# Altium schematic symbol library pwr_reg_linear_78xx79xx.SchLib: 54 symbols
Pins are listed as number, name and electrical type; pins without a type are passive.

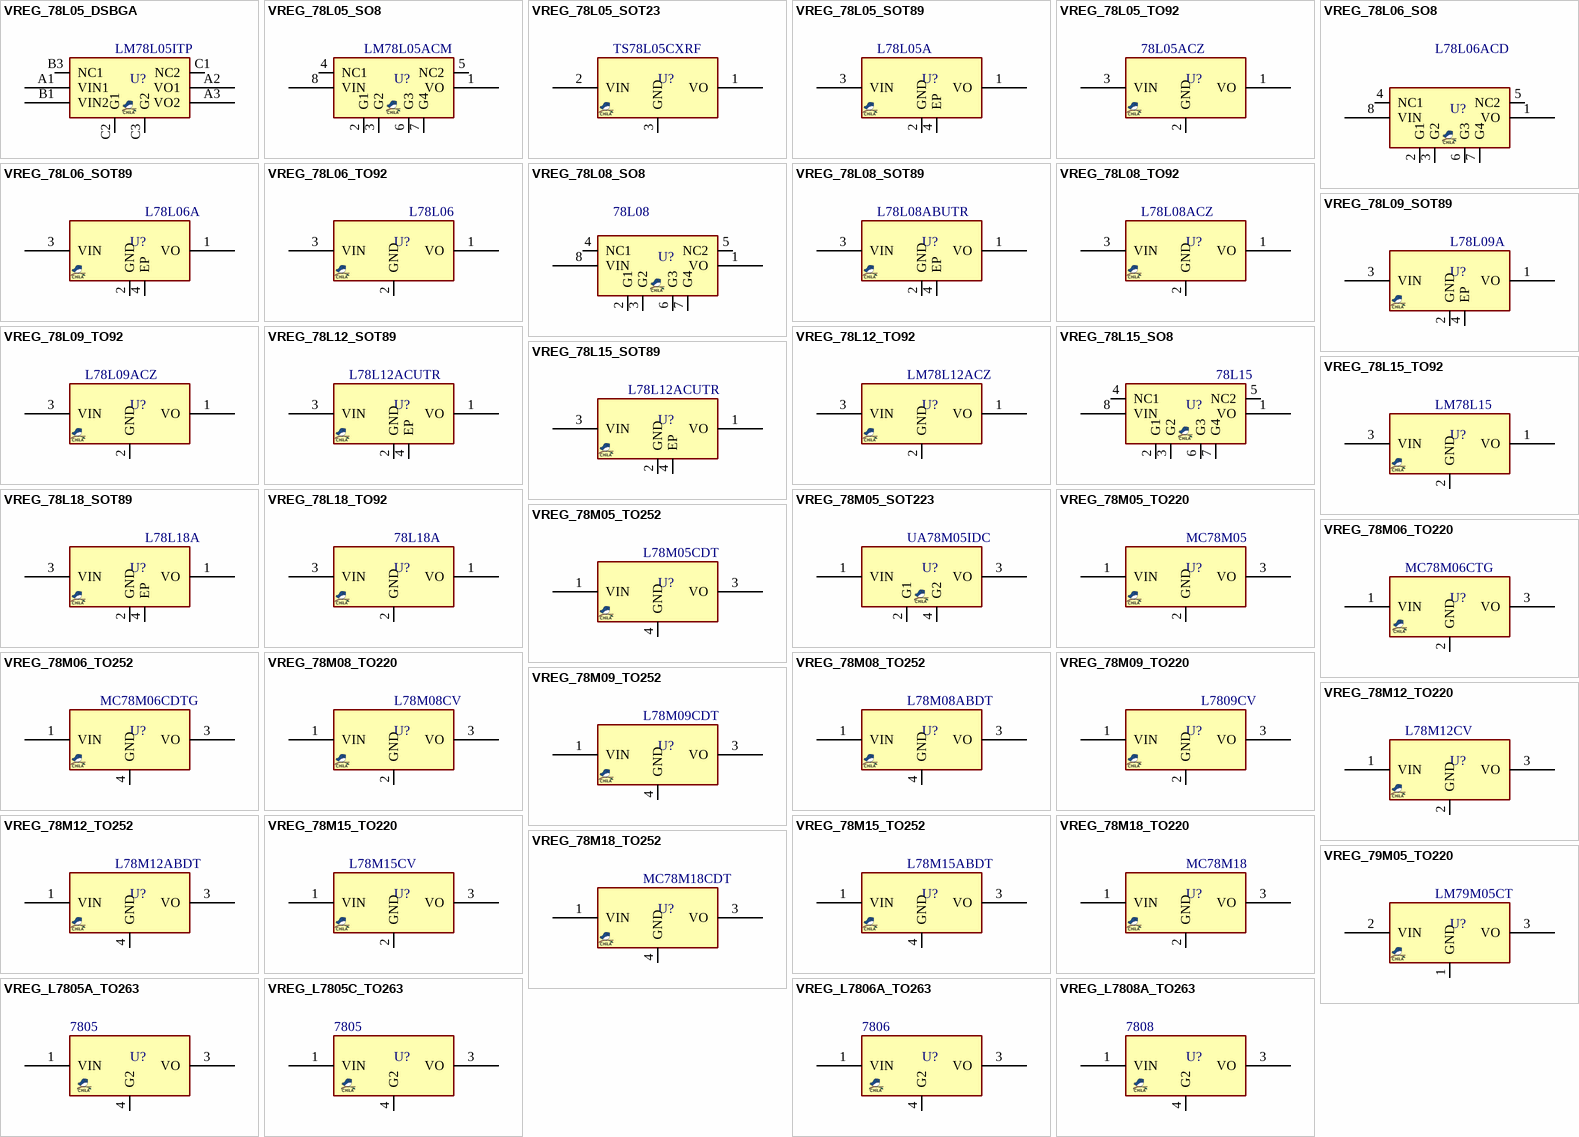
[diagram p0: symbols VREG_78L05_DSBGA to VREG_L7808A_TO263]

## VREG_78L05_DSBGA
designator U?, comment LM78L05ITP
REG, Linear, Fixed, 5v, 0.1A, BGA; MANF: TI; MANF_P#: LM78L05ITP; PARAM: 5v, 0.1A; PARAM2: PARAM2; VALUE: LM78L05ITP
footprint BGA50_8 (BGA, DSBGA, 8-Leads, Body 1.35x1.35mmx0.60mm, Pitch 0.50mm)
pins: A1 VIN1, A2 VO1, A3 VO2, B1 VIN2, B3 NC1, C1 NC2, C2 G1, C3 G2

## VREG_78L05_SO8
designator U?, comment LM78L05ACM
REG, Linear, Fixed, 5v, 0.1A, SO-8; MANF_P#: LM78L05ACM, LM78L05AIM, UA78L05ACDR, UA78L05CDR, UA78L05AIDR, L78L05ABD, AP78L05SG, MC78L05ABD, MC78L05ACD, NCV78L05ABDG, TS78L05CS; MANF: TI, ST, FAIRCHILD, ON, TS; PARAM: 5v, 0.1A; PARAM2: PARAM2; VALUE: LM78L05ACM
footprint SO_8
pins: 1 VO, 2 G1, 3 G2, 4 NC1, 5 NC2, 6 G3, 7 G4, 8 VIN

## VREG_78L05_SOT23
designator U?, comment TS78L05CXRF
REG, Linear, Fixed, 5v, 0.1A, SOT-23; MANF: TS; PARAM: 12v, 0.1A; MANF_P#: TS78L05CXRF; PARAM2: PARAM2; VALUE: TS78L05CXRF
footprint SOT23_3 (SOT-23, Micro3, MO-178, TO-236AB, MO-193C, SuperSOT3, SC-59, DSO190_3_300X150)
pins: 1 VO, 2 VIN, 3 GND

## VREG_78L05_SOT89
designator U?, comment L78L05A
REG, Linear, Fixed, 5v, 0.1A, SOT-89; MANF_P#: L78L05ABUTR, L78L05ACUTR, MC78L05ACH; MANF: ST, FAIRCHILD; PARAM: 5v, 0.1A; PARAM2: PARAM2; VALUE: L78L05A
footprint SOT89_3 (SOT89, SOT-89, SBF-4089, SOT89A, GALI, SC-62, DF782, TO-243AA(JEDEC))
pins: 1 VO, 2 GND, 3 VIN, 4 EP

## VREG_78L05_TO92
designator U?, comment 78L05ACZ
REG, Linear, Fixed, 5v, 0.1A, TO-92; MANF_P#: LM78L05ACZ, LM78L05ACP, L78L05ACZ, WS78L05ACZ, AS78L05Z; MANF: TI, ST, WS, DIODES; PARAM: 5v, 0.1A; PARAM2: PARAM2; VALUE: 78L05ACZ
footprint TO92_3 (TO-92)
pins: 1 VO, 2 GND, 3 VIN

## VREG_78L06_SO8
designator U?, comment L78L06ACD
REG, Linear, Fixed, 6v, 0.1A, SO-8; MANF: ST; MANF_P#: L78L06ACD; PARAM: 6v, 0.1A; PARAM2: PARAM2; VALUE: L78L06ACD
footprint SO_8
pins: 1 VO, 2 G1, 3 G2, 4 NC1, 5 NC2, 6 G3, 7 G4, 8 VIN

## VREG_78L06_SOT89
designator U?, comment L78L06A
REG, Linear, Fixed, 6v, 0.1A, SOT-89; MANF_P#: UA78L06ACPK, L78L06ACUTR, L78L06ABUTR, NJM78L06UA; MANF: TI, ST, NJR; PARAM: 6v, 0.1A; PARAM2: PARAM2; VALUE: L78L06A
footprint SOT89_3 (SOT89, SOT-89, SBF-4089, SOT89A, GALI, SC-62, DF782, TO-243AA(JEDEC))
pins: 1 VO, 2 GND, 3 VIN, 4 EP

## VREG_78L06_TO92
designator U?, comment L78L06
REG, Linear, Fixed, 6v, 0.1A, TO-92; MANF_P#: UA78L06ACLP, L78L06ABZ, L78L06ACZ, MC78L06ACP, MC78L06ACP, KA78L06AZTA; MANF: TI, ST, FAIRCHILD, ON; PARAM: 6v, 0.1A; PARAM2: PARAM2; VALUE: L78L06
footprint TO92_3 (TO-92)
pins: 1 VO, 2 GND, 3 VIN

## VREG_78L08_SO8
designator U?, comment 78L08
REG, Linear, Fixed, 8v, 0.1A, SO-8; MANF_P#: UA78L08ACD, L78L08ABD, L78L08ACD, MC78L08ABD, MC78L08ACD, NCV78L08ABD; MANF: TI, ST, ON; PARAM: 8v, 0.1A; PARAM2: PARAM2; VALUE: 78L08
footprint SO_8
pins: 1 VO, 2 G1, 3 G2, 4 NC1, 5 NC2, 6 G3, 7 G4, 8 VIN

## VREG_78L08_SOT89
designator U?, comment L78L08ABUTR
REG, Linear, Fixed, 8v, 0.1A, SOT-89; MANF_P#: UA78L08ACPK, L78L08ABUTR, KA78L08AMTF, KA78L08AMTF, MC78L08ACHX, AP78L08YG, NJM78L08UA; MANF: TI, ST, FAIRCHILD, DIODES, NJR; PARAM: 8v, 0.1A; PARAM2: PARAM2; VALUE: L78L08ABUTR
footprint SOT89_3 (SOT89, SOT-89, SBF-4089, SOT89A, GALI, SC-62, DF782, TO-243AA(JEDEC))
pins: 1 VO, 2 GND, 3 VIN, 4 EP

## VREG_78L08_TO92
designator U?, comment L78L08ACZ
REG, Linear, Fixed, 8v, 0.1A, TO-92; MANF_P#: UA78L08ACLP, L78L08ABZ, L78L08ACZ, KA78L08AZTA, MC78L08ABP, MC78L08ACP; MANF: TI, ST, FAIRCHILD, ON; PARAM: 8v, 0.1A; PARAM2: PARAM2; VALUE: L78L08ACZ
footprint TO92_3 (TO-92)
pins: 1 VO, 2 GND, 3 VIN

## VREG_78L09_SOT89
designator U?, comment L78L09A
REG, Linear, Fixed, 9v, 0.1A, SOT-89; MANF_P#: L78L09ACUTR; MANF: ST; PARAM: 9v, 0.1A; PARAM2: PARAM2; VALUE: L78L09A
footprint SOT89_3 (SOT89, SOT-89, SBF-4089, SOT89A, GALI, SC-62, DF782, TO-243AA(JEDEC))
pins: 1 VO, 2 GND, 3 VIN, 4 EP

## VREG_78L09_TO92
designator U?, comment L78L09ACZ
REG, Linear, Fixed, 9v, 0.1A, TO-92; MANF: ST; MANF_P#: L78L09ACZ; PARAM: 9v, 0.1A; PARAM2: PARAM2; VALUE: L78L09ACZ
footprint TO92_3 (TO-92)
pins: 1 VO, 2 GND, 3 VIN

## VREG_78L12_SOT89
designator U?, comment L78L12ACUTR
REG, Linear, Fixed, 12v, 0.1A, SOT-89; MANF_P#: UA78L12ACPK, L78L12ACUTR; MANF: TI, ST; PARAM: 12v, 0.1A; PARAM2: PARAM2; VALUE: L78L12ACUTR
footprint SOT89_3 (SOT89, SOT-89, SBF-4089, SOT89A, GALI, SC-62, DF782, TO-243AA(JEDEC))
pins: 1 VO, 2 GND, 3 VIN, 4 EP

## VREG_78L12_TO92
designator U?, comment LM78L12ACZ
REG, Linear, Fixed, 12v, 0.1A, TO-92; MANF_P#: LM78L12ACZ, MC78L12ACPG; MANF: FAIRCHILD, ON; PARAM: 8v, 0.1A; PARAM2: PARAM2; VALUE: LM78L12ACZ
footprint TO92_3 (TO-92)
pins: 1 VO, 2 GND, 3 VIN

## VREG_78L15_SO8
designator U?, comment 78L15
REG, Linear, Fixed, 15v, 0.1A, SO-8; MANF_P#: LM78L15ACM; MANF: TI; PARAM: 15v, 0.1A; PARAM2: PARAM2; VALUE: 78L15
footprint SO_8
pins: 1 VO, 2 G1, 3 G2, 4 NC1, 5 NC2, 6 G3, 7 G4, 8 VIN

## VREG_78L15_SOT89
designator U?, comment L78L12ACUTR
REG, Linear, Fixed, 15v, 0.1A, SOT-89; MANF_P#: UA78L15ACPK, L78L15ACUTR; MANF: TI, ST; PARAM: 15v, 0.1A; PARAM2: PARAM2; VALUE: L78L12ACUTR
footprint SOT89_3 (SOT89, SOT-89, SBF-4089, SOT89A, GALI, SC-62, DF782, TO-243AA(JEDEC))
pins: 1 VO, 2 GND, 3 VIN, 4 EP

## VREG_78L15_TO92
designator U?, comment LM78L15
REG, Linear, Fixed, 15v, 0.1A, TO-92; MANF: TI; MANF_P#: LM78L15; PARAM: 15v, 0.1A; PARAM2: PARAM2; VALUE: LM78L15
footprint TO92_3 (TO-92)
pins: 1 VO, 2 GND, 3 VIN

## VREG_78L18_SOT89
designator U?, comment L78L18A
REG, Linear, Fixed, 18v, 0.1A, SOT-89; MANF_P#: L78L18ACUTR; MANF: ST; PARAM: 18v, 0.1A; PARAM2: PARAM2; VALUE: L78L18A
footprint SOT89_3 (SOT89, SOT-89, SBF-4089, SOT89A, GALI, SC-62, DF782, TO-243AA(JEDEC))
pins: 1 VO, 2 GND, 3 VIN, 4 EP

## VREG_78L18_TO92
designator U?, comment 78L18A
REG, Linear, Fixed, 18v, 0.1A, TO-92; MANF_P#: MC78L18ACPG; MANF: ON; PARAM: 18v, 0.1A; PARAM2: PARAM2; VALUE: 78L18A
footprint TO92_3 (TO-92)
pins: 1 VO, 2 GND, 3 VIN

## VREG_78M05_SOT223
designator U?, comment UA78M05IDC
REG, Linear, Fixed, 5v, 0.5A, SOT-223; MANF_P#: UA78M05IDCYR; MANF: TI; PARAM: 5v, 0.5A; PARAM2: PARAM2; VALUE: UA78M05IDC
footprint SOT223_4 (SOT223, 4-Leads, Body 6.5x3.5mm, Pitch 2.30mm)
pins: 1 VIN, 2 G1, 3 VO, 4 G2

## VREG_78M05_TO220
designator U?, comment MC78M05
REG, Linear, Fixed, 5v, 1.5A, TO-220; MANF_P#: LM78M05CT, LM7805CT, LM7805ACT, UA7805CKC, L7805ABV, L7805ACV, L7805CV, L78M05CV, KA78T05, KA7805ETU, MC78M05BT, MC78M05CT, MC7805ACT, MC7805ABT, NCP7805TG, NJM7805FA, TS7805CZ; MANF: TI, ST, FAIRCHILD, ON, NJR, TS; PARAM: 5v, 1.5A; PARAM2: PARAM2; VALUE: MC78M05
footprint TO220_3 (TO-220 3 LEAD, TO-262, pitch: 2.54mm  10x4.5mm)
pins: 1 VIN, 2 GND, 3 VO

## VREG_78M05_TO252
designator U?, comment L78M05CDT
REG, Linear, Fixed, 5v, 0.5A, TO-252; MANF_P#: LM78M05CDT, L7805CDT, MC7805BDT, MC78M05CDT, MC7805BDT, KA7805ERT, NCV7805BDT, BA7805FP, NJM7805DL1A, AS7805ADTR; MANF: TI, ST, FAIRCHILD, ON, NJR, ROHM, DIODES; PARAM: 5v, 0.5A; PARAM2: PARAM2; VALUE: L78M05CDT
footprint DPAK_3 (D-PAK (TO-252), 3-Pads, Body 6.2x6.7mm)
pins: 1 VIN, 3 VO, 4 GND

## VREG_78M06_TO220
designator U?, comment MC78M06CTG
REG, Linear, Fixed, 6v, 1.5A, TO220; MANF: ON; MANF_P#: MC78M06CTG; PARAM: 6v, 1.5A; PARAM2: PARAM2; VALUE: MC78M06CTG
footprint TO220_3 (TO-220 3 LEAD, TO-262, pitch: 2.54mm  10x4.5mm)
pins: 1 VIN, 2 GND, 3 VO

## VREG_78M06_TO252
designator U?, comment MC78M06CDTG
REG, Linear, Fixed, 6v, 0.5A, TO-252; MANF: ON; MANF_P#: MC78M06CDTG; PARAM: 6v, 0.5A; PARAM2: PARAM2; VALUE: MC78M06CDTG
footprint DPAK_3 (D-PAK (TO-252), 3-Pads, Body 6.2x6.7mm)
pins: 1 VIN, 3 VO, 4 GND

## VREG_78M08_TO220
designator U?, comment L78M08CV
REG, Linear, Fixed, 8v, 1.5A, TO220; MANF_P#: L78M08CV, L7808ACV, L7808CV, L7808ABV, MC7808ACTG, MC7808CTG, UA7808CKC, LM7808CT, KA7808ETU, BA17808T, NCV7808BTG, NJM7808FA; MANF: TI, ST, FAIRCHILD, ON, DIODES, NJR; PARAM: 8v, 1.5A; PARAM2: PARAM2; VALUE: L78M08CV
footprint TO220_3 (TO-220 3 LEAD, TO-262, pitch: 2.54mm  10x4.5mm)
pins: 1 VIN, 2 GND, 3 VO

## VREG_78M08_TO252
designator U?, comment L78M08ABDT
REG, Linear, Fixed, 8v, 0.5A, TO-252; MANF_P#: UA78M08CKVUR, L78M08ABDT, MC78M08CDT, MC78M08BDT, L78M08CDT, NJM78M08DL1A, BA178M08FP, KA7808ERTM, MC7808CDT; MANF: TI, ST, FAIRCHILD, ON, ROHM, NJR; PARAM: 8v, 0.5A; PARAM2: PARAM2; VALUE: L78M08ABDT
footprint DPAK_3 (D-PAK (TO-252), 3-Pads, Body 6.2x6.7mm)
pins: 1 VIN, 3 VO, 4 GND

## VREG_78M09_TO220
designator U?, comment L7809CV
REG, Linear, Fixed, 9v, 1.5A, TO-220; MANF: ST; MANF_P#: L7809CV; PARAM: 9v, 1.5A; PARAM2: PARAM2; VALUE: L7809CV
footprint TO220_3 (TO-220 3 LEAD, TO-262, pitch: 2.54mm  10x4.5mm)
pins: 1 VIN, 2 GND, 3 VO

## VREG_78M09_TO252
designator U?, comment L78M09CDT
REG, Linear, Fixed, 9v, 0.5A, TO-252; MANF: ST; MANF_P#: L78M09CDT; PARAM: 9v, 0.5A; PARAM2: PARAM2; VALUE: L78M09CDT
footprint DPAK_3 (D-PAK (TO-252), 3-Pads, Body 6.2x6.7mm)
pins: 1 VIN, 3 VO, 4 GND

## VREG_78M12_TO220
designator U?, comment L78M12CV
REG, Linear, Fixed, 12v, 1.5A, TO220; MANF_P#: L78M12CV, MC78M12CTG, UA78M12CKC; MANF: TI, ST, ON; PARAM: 12v, 1.5A; PARAM2: PARAM2; VALUE: L78M12CV
footprint TO220_3 (TO-220 3 LEAD, TO-262, pitch: 2.54mm  10x4.5mm)
pins: 1 VIN, 2 GND, 3 VO

## VREG_78M12_TO252
designator U?, comment L78M12ABDT
REG, Linear, Fixed, 12v, 0.5A, TO-252; MANF_P#: MC78M12CDT, UA78M12CKV, MC78M12ABDT, L78M12CDT, MC78M12BDT, BA78M12FP, TS78M12CP; MANF: TI, ST, ON, ROHM, TS; PARAM: 12v, 0.5A; PARAM2: PARAM2; VALUE: L78M12ABDT
footprint DPAK_3 (D-PAK (TO-252), 3-Pads, Body 6.2x6.7mm)
pins: 1 VIN, 3 VO, 4 GND

## VREG_78M15_TO220
designator U?, comment L78M15CV
REG, Linear, Fixed, 15v, 1.5A, TO220; MANF: ST; MANF_P#: L78M15CV; PARAM: 15v, 1.5A; PARAM2: PARAM2; VALUE: L78M15CV
footprint TO220_3 (TO-220 3 LEAD, TO-262, pitch: 2.54mm  10x4.5mm)
pins: 1 VIN, 2 GND, 3 VO

## VREG_78M15_TO252
designator U?, comment L78M15ABDT
REG, Linear, Fixed, 15v, 0.5A, TO-252; MANF: ST; MANF_P#: L78M15ABDT; PARAM: 15v, 0.5A; PARAM2: PARAM2; VALUE: L78M15ABDT
footprint DPAK_3 (D-PAK (TO-252), 3-Pads, Body 6.2x6.7mm)
pins: 1 VIN, 3 VO, 4 GND

## VREG_78M18_TO220
designator U?, comment MC78M18
REG, Linear, Fixed, 18v, 1.5A, TO-220; MANF_P#: MC78M18BTG; MANF: ON; PARAM: 18v, 1.5A; PARAM2: PARAM2; VALUE: MC78M18
footprint TO220_3 (TO-220 3 LEAD, TO-262, pitch: 2.54mm  10x4.5mm)
pins: 1 VIN, 2 GND, 3 VO

## VREG_78M18_TO252
designator U?, comment MC78M18CDT
REG, Linear, Fixed, 18v, 0.5A, TO-252; MANF_P#: MC78M18CDTG; MANF: ON; PARAM: 18v, 0.5A; PARAM2: PARAM2; VALUE: MC78M18CDT
footprint DPAK_3 (D-PAK (TO-252), 3-Pads, Body 6.2x6.7mm)
pins: 1 VIN, 3 VO, 4 GND

## VREG_79M05_TO220
designator U?, comment LM79M05CT
REG, Linear, Negative,Fixed, -5v, 1.5A, TO-220; MANF: TI; MANF_P#: LM79M05CT; PARAM: -5v, 1.5A; PARAM2: PARAM2; VALUE: LM79M05CT
footprint TO220_3 (TO-220 3 LEAD, TO-262, pitch: 2.54mm  10x4.5mm)
pins: 1 GND, 2 VIN, 3 VO

## VREG_L7805A_TO263
designator U?, comment 7805
REG, Linear, Fixed, 5v, 1A, TO-263; MANF_P#: L7805ABD2T; MANF: TI; PARAM2: 7.5~25vIn, 5vOut; PARAM: 1A; VALUE: 7805
footprint D2PAK_2 (D2PAK-3, FMG500_3_S1000)
pins: 1 VIN, 3 VO, 4 G2

## VREG_L7805C_TO263
designator U?, comment 7805
REG, Linear, Fixed, 5v, 0.5A, TO-263; MANF_P#: L7805CD2T; MANF: TI; PARAM2: 7~25vIn, 5vOut; PARAM: 0.5A; VALUE: 7805
footprint D2PAK_2 (D2PAK-3, FMG500_3_S1000)
pins: 1 VIN, 3 VO, 4 G2

## VREG_L7806A_TO263
designator U?, comment 7806
REG, Linear, Fixed, 6v, 1A, TO-263; MANF_P#: L7806ABD2T; MANF: TI; PARAM2: 8.6~25vIn, 6vOut; PARAM: 1A; VALUE: 7806
footprint D2PAK_2 (D2PAK-3, FMG500_3_S1000)
pins: 1 VIN, 3 VO, 4 G2

## VREG_L7808A_TO263
designator U?, comment 7808
REG, Linear, Fixed, 8v, 1A, TO-263; MANF_P#: L7808ABD2T; MANF: TI; PARAM2: 10.6~25vIn, 8vOut; PARAM: 1A; VALUE: 7808
footprint D2PAK_2 (D2PAK-3, FMG500_3_S1000)
pins: 1 VIN, 3 VO, 4 G2

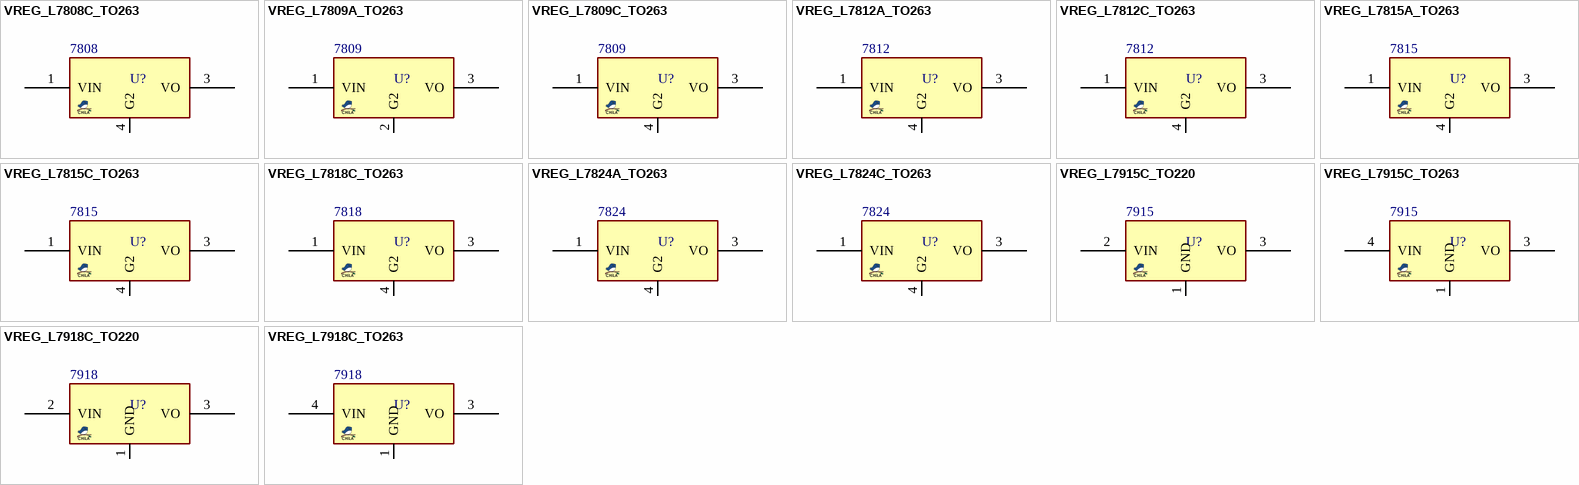
[diagram p1: symbols VREG_L7808C_TO263 to VREG_L7918C_TO263]

## VREG_L7808C_TO263
designator U?, comment 7808
REG, Linear, Fixed, 8v, 0.5A, TO-263; MANF_P#: L7808CD2T; MANF: TI; PARAM2: 10.5~25vIn, 8vOut; PARAM: 0.5A; VALUE: 7808
footprint D2PAK_2 (D2PAK-3, FMG500_3_S1000)
pins: 1 VIN, 3 VO, 4 G2

## VREG_L7809A_TO263
designator U?, comment 7809
REG, Linear, Fixed, 9v, 1A, TO-263; MANF_P#: L7809ABD2T; MANF: TI; PARAM2: 10.6~25vIn, 9vOut; PARAM: 1A; VALUE: 7809
footprint D2PAK_2 (D2PAK-3, FMG500_3_S1000)
pins: 1 VIN, 2 G2, 3 VO

## VREG_L7809C_TO263
designator U?, comment 7809
REG, Linear, Fixed, 9v, 0.5A, TO-263; MANF_P#: L7809CD2T; MANF: TI; PARAM2: 11.5~26vIn, 9vOut; PARAM: 0.5A; VALUE: 7809
footprint D2PAK_2 (D2PAK-3, FMG500_3_S1000)
pins: 1 VIN, 3 VO, 4 G2

## VREG_L7812A_TO263
designator U?, comment 7812
REG, Linear, Fixed, 12v, 1A, TO-263; MANF_P#: L7812ABD2T; MANF: TI; PARAM2: 14.8~30vIn, 12vOut; PARAM: 1A; VALUE: 7812
footprint D2PAK_2 (D2PAK-3, FMG500_3_S1000)
pins: 1 VIN, 3 VO, 4 G2

## VREG_L7812C_TO263
designator U?, comment 7812
REG, Linear, Fixed, 12v, 0.5A, TO-263; MANF_P#: L7812CD2T; MANF: TI; PARAM2: 14.5~30vIn, 12vOut; PARAM: 0.5A; VALUE: 7812
footprint D2PAK_2 (D2PAK-3, FMG500_3_S1000)
pins: 1 VIN, 3 VO, 4 G2

## VREG_L7815A_TO263
designator U?, comment 7815
REG, Linear, Fixed, 15v, 1A, TO-263; MANF_P#: L7815ABD2T; MANF: TI; PARAM2: 20~26vIn, 15vOut; PARAM: 1A; VALUE: 7815
footprint D2PAK_2 (D2PAK-3, FMG500_3_S1000)
pins: 1 VIN, 3 VO, 4 G2

## VREG_L7815C_TO263
designator U?, comment 7815
REG, Linear, Fixed, 15v, 0.5A, TO-263; MANF_P#: L7815CD2T; MANF: TI; PARAM2: 17.5~30vIn, 15vOut; PARAM: 0.5A; VALUE: 7815
footprint D2PAK_2 (D2PAK-3, FMG500_3_S1000)
pins: 1 VIN, 3 VO, 4 G2

## VREG_L7818C_TO263
designator U?, comment 7818
REG, Linear, Fixed, 18v, 0.5A, TO-263; MANF_P#: L7818CD2T; MANF: TI; PARAM2: 21~33vIn, 18vOut; PARAM: 0.5A; VALUE: 7818
footprint D2PAK_2 (D2PAK-3, FMG500_3_S1000)
pins: 1 VIN, 3 VO, 4 G2

## VREG_L7824A_TO263
designator U?, comment 7824
REG, Linear, Fixed, 24v, 1A, TO-263; MANF_P#: L7824ABD2T; MANF: TI; PARAM2: 30~36vIn, 24vOut; PARAM: 1A; VALUE: 7824
footprint D2PAK_2 (D2PAK-3, FMG500_3_S1000)
pins: 1 VIN, 3 VO, 4 G2

## VREG_L7824C_TO263
designator U?, comment 7824
REG, Linear, Fixed, 24v, 0.5A, TO-263; MANF_P#: L7824CD2T; MANF: TI; PARAM2: 27~38vIn, 24vOut; PARAM: 0.5A; VALUE: 7824
footprint D2PAK_2 (D2PAK-3, FMG500_3_S1000)
pins: 1 VIN, 3 VO, 4 G2

## VREG_L7915C_TO220
designator U?, comment 7915
REG, Linear, Fixed, -15v, 0.5A, TO-220 as TO-263; MANF_P#: L7915ACV, L7915ACP; MANF: TI; PARAM2: -17.5~-30vIn, -15vOut; PARAM: 0.5A; VALUE: 7915
footprint TO220_3 (TO-220 3 LEAD, TO-262, pitch: 2.54mm  10x4.5mm)
pins: 1 GND, 2 VIN, 3 VO

## VREG_L7915C_TO263
designator U?, comment 7915
REG, Linear, Fixed, -15v, 0.5A, TO-220 as TO-263; MANF_P#: L7915ACV, L7915ACP; MANF: TI; PARAM2: -17.5~-30vIn, -15vOut; PARAM: 0.5A; VALUE: 7915
footprint D2PAK_2 (D2PAK-3, FMG500_3_S1000)
pins: 1 GND, 3 VO, 4 VIN

## VREG_L7918C_TO220
designator U?, comment 7918
REG, Linear, Fixed, -18v, 0.5A, TO-220; MANF_P#: L7918CV; MANF: TI; PARAM2: -21~-33vIn, -18vOut; PARAM: 0.5A; VALUE: 7918
footprint TO220_3 (TO-220 3 LEAD, TO-262, pitch: 2.54mm  10x4.5mm)
pins: 1 GND, 2 VIN, 3 VO

## VREG_L7918C_TO263
designator U?, comment 7918
REG, Linear, Fixed, -18v, 0.5A, TO-220 as TO-263; MANF_P#: L7918CV; MANF: TI; PARAM2: -21~-33vIn, -18vOut; PARAM: 0.5A; VALUE: 7918
footprint D2PAK_2 (D2PAK-3, FMG500_3_S1000)
pins: 1 GND, 3 VO, 4 VIN